# Altium schematic symbol library ic-op-comp.SchLib: 4 symbols
Pins are listed as number, name and electrical type; pins without a type are passive.

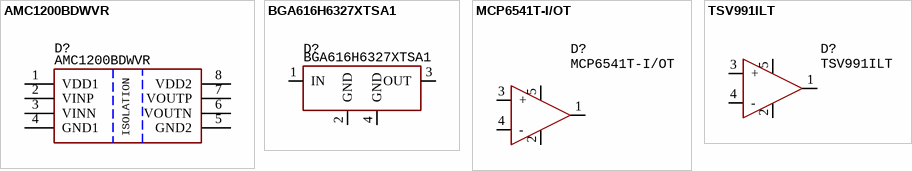
[diagram p0: symbols AMC1200BDWVR to TSV991ILT]

## AMC1200BDWVR
designator D?
IC Amplifier, 4250Vrms, 100 kHz, supply 2.7...5.5V, SOIC-8, -40...+85°C; Manufacture: Texas Instruments; HelpURL: https://eu.mouser.com/ProductDetail/Texas-Instruments/AMC1200BDWVR?qs=igp4D3uu33Jigt76w%252B1IcQ%3D%3D; Package: 8-SOIC; PartNumber: AMC1200BDWVR
footprint 8-SOIC-W (pitch 1.27 mm, isolator)
pins: 1 VDD1, 2 VINP, 3 VINN, 4 GND1, 5 GND2, 6 VOUTN, 7 VOUTP, 8 VDD2
text: ISOLATION

## BGA616H6327XTSA1
designator D?
IC RF Amplifier, 0...2.7 GHz, 19 dB, supply 6V, SOT-343-4, -40...+85°C; Manufacture: Infineon; HelpURL: https://eu.mouser.com/ProductDetail/Infineon-Technologies/BGA616H6327XTSA1?qs=K00xGehIlju0hwqCixDg5g%3D%3D; Package: SOT-343-4; PartNumber: BGA616H6327XTSA1
footprint SOT343
pins: 1 IN, 2 GND, 3 OUT, 4 GND

## MCP6541T-I/OT
designator D?
IC Comparator, Push-Pull, 8µs, 1.65...5.5V, SOT-23-5, -40...+85°C; Manufacturer: Microchip; HelpURL: https://ru.mouser.com/ProductDetail/Microchip-Technology/MCP6541T-I-OT?qs=%2Fha2pyFaduiNSaLFMjwcEnZOHjJFhYPPrvmJDlrB2ATFkZRh7lh3Rw%3D%3D; Package: SOT-23-5; Manufacturer Part Number: MCP6541T-I/OT; Component Type: OP and Comp; PartNumber: MCP6541T-I/OT
footprint SOT23-5 (pitch 0.95 mm)
pins: 1 OUT, 2 GND, 3 +, 4 -, 5 VDD

## TSV991ILT
designator D?  PartNumber: TSV991ILT
IC Amplifier, 20 MHz, Rail-to-Rail, supply 2.7...5.5V, SOT23-5, -40...+125°C; Manufacturer: STMicroelectronics; ValueManufacturerPartNumber: IC op amplifier, Rail-to-Rail, 20 MHz, 2.7...5.5V, -40...+125°C, SOT23-5; GainBandwidth: 20 MHz; HelpURL: https://www.digikey.com/product-detail/en/stmicroelectronics/TSV991ILT/497-6001-1-ND/1578484; Package: SOT23-5; ComponentType: IC op amplifier; Supply: 2.7...5.5V; Temperature: -40...+125°C; OutputType: Rail-to-Rail
footprint SOT23-5 (pitch 0.95 mm)
pins: 1 (power), 2 (power), 3 +, 4 -, 5 (power)